# Altium schematic symbol library TPS22916CNYFPR.SchLib: 1 symbol
Pins are listed as number, name and electrical type; pins without a type are passive.

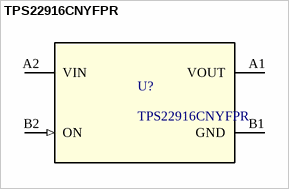
[diagram p0: symbol TPS22916CNYFPR]

## TPS22916CNYFPR
designator U?
5.5-V, 2-A, 60-mÎ©, 10-nA leakage load switch with output discharge 4-DSBGA -40 to 85; Manufacturer_Name: Texas Instruments; TYPE: TYPE; RefDes: RefDes; Copyright: Copyright (C) 2026 Ultra Librarian. All rights reserved.; Manufacturer_Part_Number: TPS22916CNYFPR
footprint YFP0004ABAB
pins: A1 VOUT (power), A2 VIN (power), B1 GND (power), B2 ON (in)